# Altium schematic symbol library pui-speakers.SchLib: 1 symbol
Pins are listed as number, name and electrical type; pins without a type are passive.

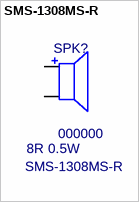
[diagram p0: symbol SMS-1308MS-R]

## SMS-1308MS-R
designator SPK?, comment 000000  value 8R 0.5W  MF PN: SMS-1308MS-R
Loudspeaker; MF: PUI-Audio; PN: 000000; Package: SMT; ExtraInfo: *
footprint SMS-1308MS-R (Loudspeaker 13mm X 13mm SMT)
pins: 1, 2